# Altium integrated library rs-232.IntLib: 2 symbols
Pins are listed as number, name and electrical type; pins without a type are passive.

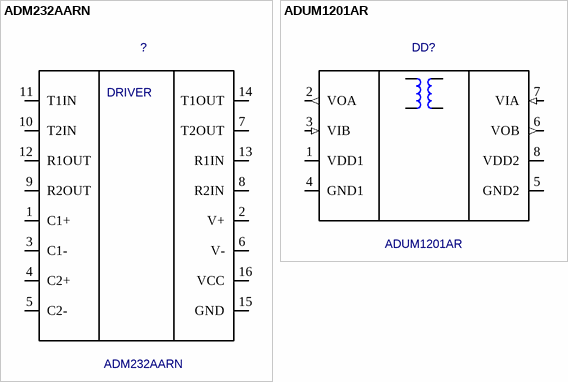
[diagram p0: symbols ADM232AARN to ADUM1201AR]

## ADM232AARN
designator ?
Value: *
footprint SOIC-16-N
pins: 1 C1+, 2 V+, 3 C1-, 4 C2+, 5 C2-, 6 V-, 7 T2OUT, 8 R2IN, 9 R2OUT, 10 T2IN, 11 T1IN, 12 R1OUT, 13 R1IN, 14 T1OUT, 15 GND, 16 VCC
text: DRIVER

## ADUM1201AR
designator DD?
Value: *
footprint SO-8
pins: 1 VDD1 (power), 2 VOA (out), 3 VIB (in), 4 GND1 (power), 5 GND2 (power), 6 VOB (out), 7 VIA (in), 8 VDD2 (power)